# Altium schematic symbol library TPS63060DSCR.SchLib: 1 symbol
Pins are listed as number, name and electrical type; pins without a type are passive.

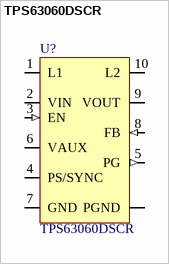
[diagram p0: symbol TPS63060DSCR]

## TPS63060DSCR
designator U?
2.5V to 12V input voltage, 93% Efficient, 2.25A Switch Current Limit, Buck-Boost Converter 10-WSON -40 to 85
footprint TI_DRC_S-PVSON-N10
pins: 1 L1, 2 VIN (power), 3 EN (in), 4 PS/SYNC, 5 PG (out), 6 VAUX, 7 GND (power), 8 FB (in), 9 VOUT (power), 10 L2, 11 PGND